# EAGLE library part ATSAMW25-MR210PA (library mbed-HDK-MF-ATMEL)
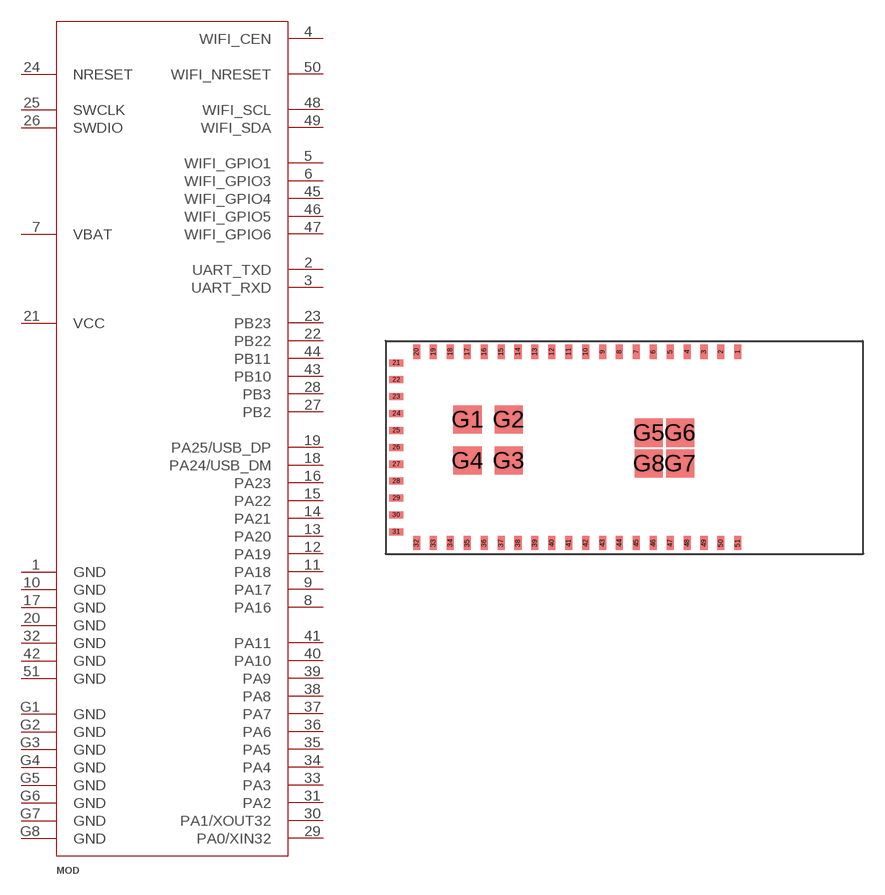
[diagram p2: symbol with the pads of ATSAMW25-MR210PA; footprint ATSAMW25-MR210PA]

Designator prefix MOD

## ATSAMW25-MR210PA  [ATSAMW25-MR210PA]
1  GND
2  UART_TXD
3  UART_RXD
4  WIFI_CEN
5  WIFI_GPIO1
6  WIFI_GPIO3
7  VBAT
8  PA16
9  PA17
10  GND
11  PA18
12  PA19
13  PA20
14  PA21
15  PA22
16  PA23
17  GND
18  PA24/USB_DM
19  PA25/USB_DP
20  GND
21  VCC
22  PB22
23  PB23
24  NRESET
25  SWCLK
26  SWDIO
27  PB2
28  PB3
29  PA0/XIN32
30  PA1/XOUT32
31  PA2
32  GND
33  PA3
34  PA4
35  PA5
36  PA6
37  PA7
38  PA8
39  PA9
40  PA10
41  PA11
42  GND
43  PB10
44  PB11
45  WIFI_GPIO4
46  WIFI_GPIO5
47  WIFI_GPIO6
48  WIFI_SCL
49  WIFI_SDA
50  WIFI_NRESET
51  GND
G1  GND
G2  GND
G3  GND
G4  GND
G5  GND
G6  GND
G7  GND
G8  GND

## Footprint ATSAMW25-MR210PA (pad centres in mm)
smd 0.5 x 1: 1 24.998,6.787; 2 23.798,6.787; 3 22.598,6.787; 4 21.398,6.787; 5 20.197,6.787; 6 18.997,6.787; 7 17.797,6.787; 8 16.597,6.787; 9 15.397,6.787; 10 14.197,6.787; 11 12.997,6.787; 12 11.796,6.787; 13 10.596,6.787; 14 9.396,6.787; 15 8.196,6.787; 16 6.996,6.787; 17 5.796,6.787; 18 4.595,6.787; 19 3.395,6.787; 20 2.195,6.787; 32 2.195,-6.803; 33 3.395,-6.803; 34 4.595,-6.803; 35 5.796,-6.803; 36 6.996,-6.803; 37 8.196,-6.803; 38 9.396,-6.803; 39 10.596,-6.803; 40 11.796,-6.803; 41 12.997,-6.803; 42 14.197,-6.803; 43 15.397,-6.803; 44 16.597,-6.803; 45 17.797,-6.803; 46 18.997,-6.803; 47 20.197,-6.803; 48 21.398,-6.803; 49 22.598,-6.803; 50 23.798,-6.803; 51 24.998,-6.803
smd 1 x 0.5: 21 0.754,6.001; 22 0.754,4.801; 23 0.754,3.6; 24 0.754,2.4; 25 0.754,1.2; 26 0.754,0; 27 0.754,-1.2; 28 0.754,-2.4; 29 0.754,-3.6; 30 0.754,-4.801; 31 0.754,-6.001
smd 2 x 2: G1 5.809,1.98; G2 8.733,1.98; G3 8.733,-0.943; G4 5.809,-0.943; G5 18.687,1.035; G6 20.904,1.035; G7 20.904,-1.147; G8 18.687,-1.147